# EAGLE library part TPS3703-33D (library wheat)
IC, RESET, 3.3V TPS3707
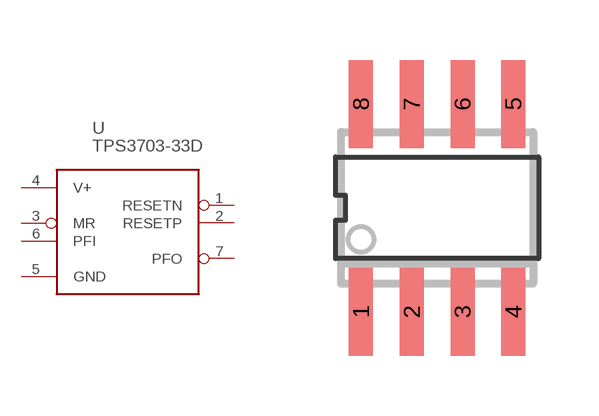
[diagram p22: symbol with the pads of SO8; footprint SO8]

Designator prefix U

## TPS3703-33D  [SO8]
1  RESETN  out
2  RESETP  out
3  MR  in
4  V+  pwr
5  GND  pwr
6  PFI  in
7  PFO  out

## Footprint SO8 (pad centres in mm)
SO8
smd 0.6 x 2.2: 1 -1.905,-2.6; 2 -0.635,-2.6; 3 0.635,-2.6; 4 1.905,-2.6; 5 1.905,2.6; 6 0.635,2.6; 7 -0.635,2.6; 8 -1.905,2.6